# Altium footprint library WS-DITV.PcbLib: 44 footprints (part 3 of 3)
Each footprint in its own frame and in the unit in brackets; x right, y up, seen from the top. Pads: shape width x height; smd on the part's side, far side on the other; paste and mask are expansions set on the pad; w line width, h text height; cw(c..) or ccw(c..) is an arc to the next point about the centre after c.
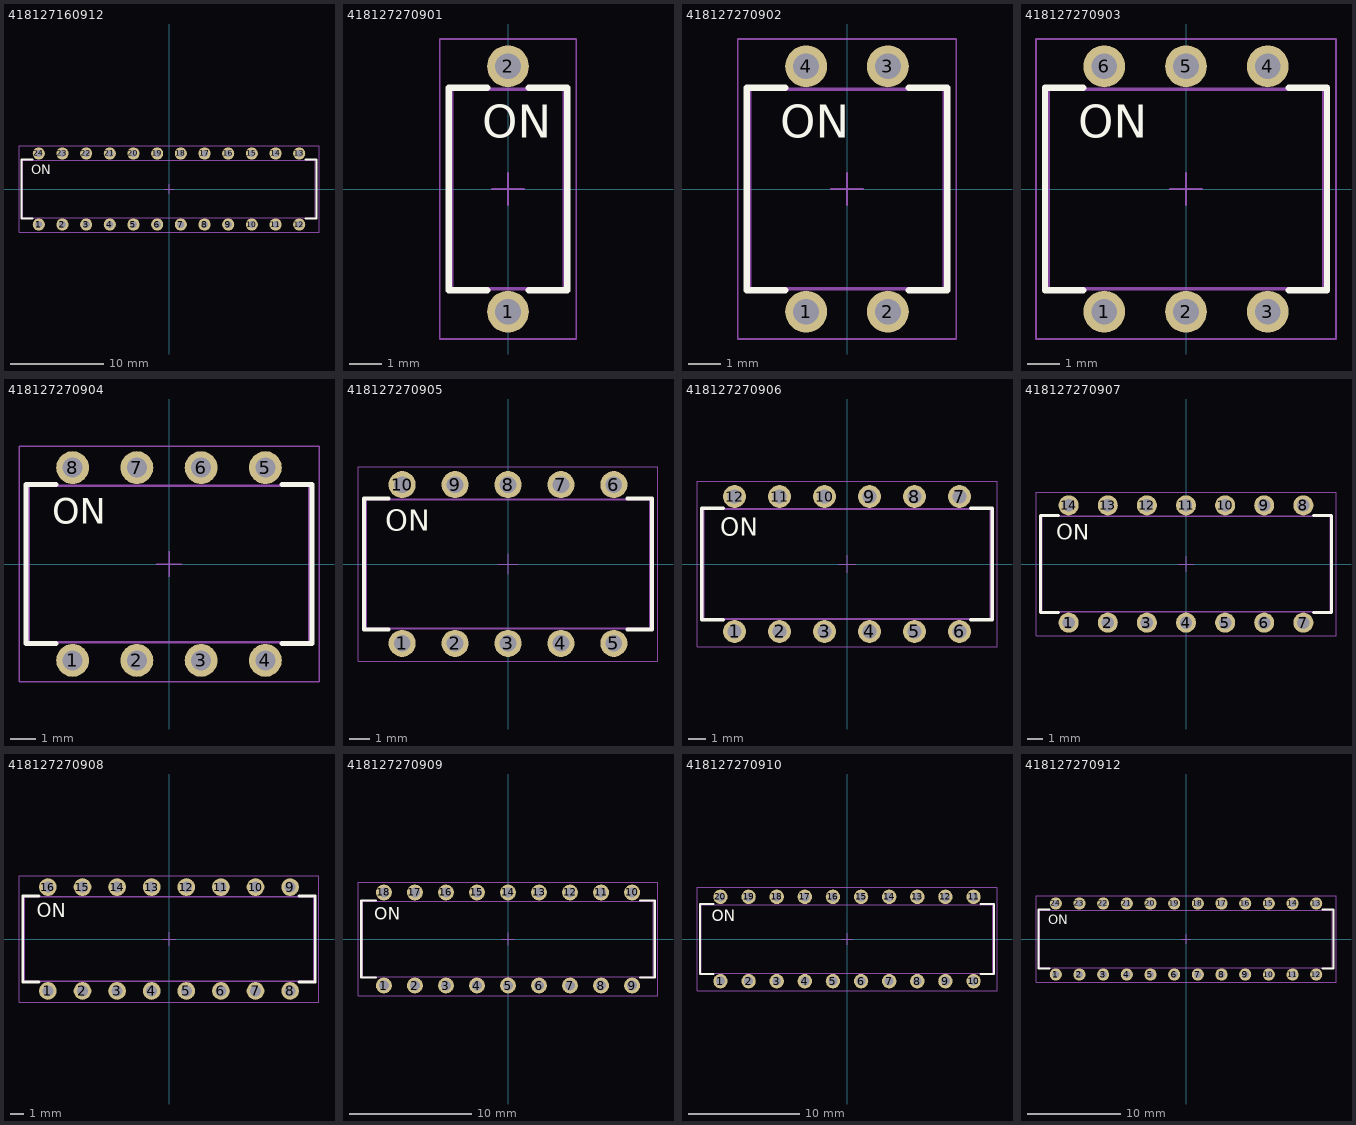
[diagram p2: the footprints below, top view; thin cyan lines are the x and y axes]

## 418127160912 [mm] "2.54 mm small compact THT flat actuator with top tape, 12p"
height 3
pads (24):
  round 1.3 hole 0.8: 1(-13.97,-3.81) 2(-11.43,-3.81) 3(-8.89,-3.81) 4(-6.35,-3.81) 5(-3.81,-3.81) 6(-1.27,-3.81) 7(1.27,-3.81) 8(3.81,-3.81) 9(6.35,-3.81) 10(8.89,-3.81) 11(11.43,-3.81) 12(13.97,-3.81) 13(13.97,3.81) 14(11.43,3.81) 15(8.89,3.81) 16(6.35,3.81) 17(3.81,3.81) 18(1.27,3.81) 19(-1.27,3.81) 20(-3.81,3.81) 21(-6.35,3.81) 22(-8.89,3.81) 23(-11.43,3.81) 24(-13.97,3.81)
Top Overlay:
  lines w0.2: -14.62,-3.15 -15.81,-3.15 -15.81,3.15 -14.62,3.15 ; 14.62,-3.15 15.81,-3.15 15.81,3.15 14.62,3.15
  text "ON" at -14.77,1.59 h1.02
Top Designator:
  text ".Designator" at -7.498,-0.5 h1.5
Top Component Outline:
  lines w0.1: -15.71,-3.1 -15.71,3.1 15.71,3.1 15.71,-3.1 -15.71,-3.1
  text "10" at 8.22,-2.67 h1.02
  text "8" at 3.47,-2.67 h1.02
  text "6" at -1.61,-2.67 h1.02
  text "5" at -4.15,-2.67 h1.02
  text "4" at -6.69,-2.67 h1.02
  text "3" at -9.23,-2.67 h1.02
  text "1" at -14.07,-2.67 h1.02
  text "ON" at -14.77,1.59 h1.02
  text "2" at -11.77,-2.67 h1.02
  text "7" at 0.93,-2.67 h1.02
  text "9" at 6.01,-2.67 h1.02
  text "11" at 10.96,-2.67 h1.02
  text "12" at 13.24,-2.68 h1.02
Top Courtyard:
  lines w0.05: -0.5,0 0.5,0 ; 0,-0.5 0,0.5 ; -16.09,-4.66 -16.09,4.66 16.09,4.66 16.09,-4.66 -16.09,-4.66
3D body "418127160912.stp": height 3.59, standoff -3.45, extent -15.71,-3.985 15.71,3.885

## 418127270901 [mm] "2.54 mm small compact THT with raised actuator, 1p"
height 3.62
pads (2):
  round 1.3 hole 0.8: 1(0,-3.81) 2(0,3.81)
Top Overlay:
  lines w0.2: -0.65,-3.15 -1.84,-3.15 -1.84,3.15 -0.65,3.15 ; 0.65,-3.15 1.84,-3.15 1.84,3.15 0.65,3.15
  text "ON" at -0.8,1.59 h1.02
Top Designator:
  text ".Designator" at -7.498,-0.5 h1.5
Top Component Outline:
  lines w0.1: -1.74,-3.1 -1.74,3.1 1.74,3.1 1.74,-3.1 -1.74,-3.1
  text "1" at -0.1,-2.67 h1.02
  text "ON" at -0.8,1.59 h1.02
Top Courtyard:
  lines w0.05: -0.5,0 0.5,0 ; 0,-0.5 0,0.5 ; -2.12,-4.66 -2.12,4.66 2.12,4.66 2.12,-4.66 -2.12,-4.66
3D body "418127270901.stp": height 4.15, standoff -3.45, extent -1.74,-3.985 1.74,3.885

## 418127270902 [mm] "2.54 mm small compact THT with raised actuator 2p"
height 3.6
pads (4):
  round 1.3 hole 0.8: 1(-1.27,-3.81) 2(1.27,-3.81) 3(1.27,3.81) 4(-1.27,3.81)
Top Overlay:
  lines w0.2: -1.92,-3.15 -3.11,-3.15 -3.11,3.15 -1.92,3.15 ; 1.92,-3.15 3.11,-3.15 3.11,3.15 1.92,3.15
  text "ON" at -2.07,1.59 h1.02
Top Designator:
  text ".Designator" at -7.498,-0.5 h1.5
Top Component Outline:
  lines w0.1: -3.01,-3.1 3.01,-3.1 3.01,3.1 -3.01,3.1 -3.01,-3.1
  text "2" at 0.93,-2.67 h1.02
  text "ON" at -2.07,1.59 h1.02
  text "1" at -1.37,-2.67 h1.02
Top Courtyard:
  lines w0.05: -0.5,0 0.5,0 ; 0,-0.5 0,0.5 ; -3.39,-4.66 3.39,-4.66 3.39,4.66 -3.39,4.66 -3.39,-4.66
3D body "418127270902.stp": height 4.15, standoff -3.45, extent -3.01,-3.985 3.01,3.885

## 418127270903 [mm] "2.54 mm small compact THT with raised actuator 3p"
height 3.6
pads (6):
  round 1.3 hole 0.8: 1(-2.54,-3.81) 2(0,-3.81) 3(2.54,-3.81) 4(2.54,3.81) 5(0,3.81) 6(-2.54,3.81)
Top Overlay:
  lines w0.2: -3.19,-3.15 -4.38,-3.15 -4.38,3.15 -3.19,3.15 ; 3.19,-3.15 4.38,-3.15 4.38,3.15 3.19,3.15
  text "ON" at -3.34,1.59 h1.02
Top Designator:
  text ".Designator" at -7.498,-0.5 h1.5
Top Component Outline:
  lines w0.1: -4.28,-3.1 -4.28,3.1 4.28,3.1 4.28,-3.1 -4.28,-3.1
  text "3" at 2.2,-2.67 h1.02
  text "1" at -2.64,-2.67 h1.02
  text "ON" at -3.34,1.59 h1.02
  text "2" at -0.34,-2.67 h1.02
Top Courtyard:
  lines w0.05: -0.5,0 0.5,0 ; 0,-0.5 0,0.5 ; -4.66,-4.66 -4.66,4.66 4.66,4.66 4.66,-4.66 -4.66,-4.66
3D body "418127270903.stp": height 4.15, standoff -3.45, extent -4.28,-3.985 4.28,3.885

## 418127270904 [mm] "2.54 mm small compact THT with raised actuator, 4p"
height 3.6
pads (8):
  round 1.3 hole 0.8: 1(-3.81,-3.81) 2(-1.27,-3.81) 3(1.27,-3.81) 4(3.81,-3.81) 5(3.81,3.81) 6(1.27,3.81) 7(-1.27,3.81) 8(-3.81,3.81)
Top Overlay:
  lines w0.2: -4.46,-3.15 -5.65,-3.15 -5.65,3.15 -4.46,3.15 ; 4.46,-3.15 5.65,-3.15 5.65,3.15 4.46,3.15
  text "ON" at -4.61,1.59 h1.02
Top Designator:
  text ".Designator" at -7.498,-0.5 h1.5
Top Component Outline:
  lines w0.1: -5.55,-3.1 -5.55,3.1 5.55,3.1 5.55,-3.1 -5.55,-3.1
  text "4" at 3.47,-2.67 h1.02
  text "3" at 0.93,-2.67 h1.02
  text "1" at -3.91,-2.67 h1.02
  text "ON" at -4.61,1.59 h1.02
  text "2" at -1.61,-2.67 h1.02
Top Courtyard:
  lines w0.05: -0.5,0 0.5,0 ; 0,-0.5 0,0.5 ; -5.93,-4.66 -5.93,4.66 5.93,4.66 5.93,-4.66 -5.93,-4.66
3D body "418127270904.stp": height 4.15, standoff -3.45, extent -5.55,-3.985 5.55,3.885

## 418127270905 [mm] "2.54 mm small compact THT with raised actuator 5p"
height 3.6
pads (10):
  round 1.3 hole 0.8: 1(-5.08,-3.81) 2(-2.54,-3.81) 3(0,-3.81) 4(2.54,-3.81) 5(5.08,-3.81) 6(5.08,3.81) 7(2.54,3.81) 8(0,3.81) 9(-2.54,3.81) 10(-5.08,3.81)
Top Overlay:
  lines w0.2: -5.73,-3.15 -6.92,-3.15 -6.92,3.15 -5.73,3.15 ; 5.73,-3.15 6.92,-3.15 6.92,3.15 5.73,3.15
  text "ON" at -5.88,1.59 h1.02
Top Designator:
  text ".Designator" at -7.498,-0.5 h1.5
Top Component Outline:
  lines w0.1: -6.82,-3.1 -6.82,3.1 6.82,3.1 6.82,-3.1 -6.82,-3.1
  text "5" at 4.74,-2.67 h1.02
  text "4" at 2.2,-2.67 h1.02
  text "3" at -0.34,-2.67 h1.02
  text "1" at -5.18,-2.67 h1.02
  text "ON" at -5.88,1.59 h1.02
  text "2" at -2.88,-2.67 h1.02
Top Courtyard:
  lines w0.05: -0.5,0 0.5,0 ; 0,-0.5 0,0.5 ; -7.2,-4.66 -7.2,4.66 7.2,4.66 7.2,-4.66 -7.2,-4.66
3D body "418127270905.stp": height 4.15, standoff -3.45, extent -6.82,-3.985 6.82,3.885

## 418127270906 [mm] "2.54 mm small compact THT with raised actuator, 6p"
height 3.6
pads (12):
  round 1.3 hole 0.8: 1(-6.35,-3.81) 2(-3.81,-3.81) 3(-1.27,-3.81) 4(1.27,-3.81) 5(3.81,-3.81) 6(6.35,-3.81) 7(6.35,3.81) 8(3.81,3.81) 9(1.27,3.81) 10(-1.27,3.81) 11(-3.81,3.81) 12(-6.35,3.81)
Top Overlay:
  lines w0.2: -7,-3.15 -8.19,-3.15 -8.19,3.15 -7,3.15 ; 7,-3.15 8.19,-3.15 8.19,3.15 7,3.15
  text "ON" at -7.15,1.59 h1.02
Top Designator:
  text ".Designator" at -7.498,-0.5 h1.5
Top Component Outline:
  lines w0.1: -8.09,-3.1 -8.09,3.1 8.09,3.1 8.09,-3.1 -8.09,-3.1
  text "6" at 6.01,-2.67 h1.02
  text "5" at 3.47,-2.67 h1.02
  text "4" at 0.93,-2.67 h1.02
  text "3" at -1.61,-2.67 h1.02
  text "1" at -6.45,-2.67 h1.02
  text "ON" at -7.15,1.59 h1.02
  text "2" at -4.15,-2.67 h1.02
Top Courtyard:
  lines w0.05: -0.5,0 0.5,0 ; 0,-0.5 0,0.5 ; -8.47,-4.66 -8.47,4.66 8.47,4.66 8.47,-4.66 -8.47,-4.66
3D body "418127270906.stp": height 4.15, standoff -3.45, extent -8.09,-3.985 8.09,3.885

## 418127270907 [mm] "2.54 mm small compact THT with raised actuator 7p"
height 3.6
pads (14):
  round 1.3 hole 0.8: 1(-7.62,-3.81) 2(-5.08,-3.81) 3(-2.54,-3.81) 4(0,-3.81) 5(2.54,-3.81) 6(5.08,-3.81) 7(7.62,-3.81) 8(7.62,3.81) 9(5.08,3.81) 10(2.54,3.81) 11(0,3.81) 12(-2.54,3.81) 13(-5.08,3.81) 14(-7.62,3.81)
Top Overlay:
  lines w0.2: -8.27,-3.15 -9.46,-3.15 -9.46,3.15 -8.27,3.15 ; 8.27,-3.15 9.46,-3.15 9.46,3.15 8.27,3.15
  text "ON" at -8.42,1.59 h1.02
Top Designator:
  text ".Designator" at -7.498,-0.5 h1.5
Top Component Outline:
  lines w0.1: -9.36,-3.1 9.36,-3.1 9.36,3.1 -9.36,3.1 -9.36,-3.1
  text "7" at 7.28,-2.67 h1.02
  text "2" at -5.42,-2.67 h1.02
  text "ON" at -8.42,1.59 h1.02
  text "1" at -7.72,-2.67 h1.02
  text "3" at -2.88,-2.67 h1.02
  text "4" at -0.34,-2.67 h1.02
  text "5" at 2.2,-2.67 h1.02
  text "6" at 4.74,-2.67 h1.02
Top Courtyard:
  lines w0.05: -0.5,0 0.5,0 ; 0,-0.5 0,0.5 ; -9.74,-4.66 9.74,-4.66 9.74,4.66 -9.74,4.66 -9.74,-4.66
3D body "418127270907.stp": height 4.15, standoff -3.45, extent -9.36,-3.985 9.36,3.885

## 418127270908 [mm] "2.54 mm small compact THT with raised actuator, 8p"
height 3.6
pads (16):
  round 1.3 hole 0.8: 1(-8.89,-3.81) 2(-6.35,-3.81) 3(-3.81,-3.81) 4(-1.27,-3.81) 5(1.27,-3.81) 6(3.81,-3.81) 7(6.35,-3.81) 8(8.89,-3.81) 9(8.89,3.81) 10(6.35,3.81) 11(3.81,3.81) 12(1.27,3.81) 13(-1.27,3.81) 14(-3.81,3.81) 15(-6.35,3.81) 16(-8.89,3.81)
Top Overlay:
  lines w0.2: -9.54,-3.15 -10.73,-3.15 -10.73,3.15 -9.54,3.15 ; 9.54,-3.15 10.73,-3.15 10.73,3.15 9.54,3.15
  text "ON" at -9.69,1.59 h1.02
Top Designator:
  text ".Designator" at -7.498,-0.5 h1.5
Top Component Outline:
  lines w0.1: -10.63,-3.1 -10.63,3.1 10.63,3.1 10.63,-3.1 -10.63,-3.1
  text "8" at 8.55,-2.67 h1.02
  text "6" at 3.47,-2.67 h1.02
  text "5" at 0.93,-2.67 h1.02
  text "4" at -1.61,-2.67 h1.02
  text "3" at -4.15,-2.67 h1.02
  text "1" at -8.99,-2.67 h1.02
  text "ON" at -9.69,1.59 h1.02
  text "2" at -6.69,-2.67 h1.02
  text "7" at 6.01,-2.67 h1.02
Top Courtyard:
  lines w0.05: -0.5,0 0.5,0 ; 0,-0.5 0,0.5 ; -11.01,-4.66 -11.01,4.66 11.01,4.66 11.01,-4.66 -11.01,-4.66
3D body "418127270908.stp": height 4.15, standoff -3.45, extent -10.63,-3.985 10.63,3.885

## 418127270909 [mm] "2.54 mm small compact THT with raised actuator, 9p"
height 3.6
pads (18):
  round 1.3 hole 0.8: 1(-10.16,-3.81) 2(-7.62,-3.81) 3(-5.08,-3.81) 4(-2.54,-3.81) 5(0,-3.81) 6(2.54,-3.81) 7(5.08,-3.81) 8(7.62,-3.81) 9(10.16,-3.81) 10(10.16,3.81) 11(7.62,3.81) 12(5.08,3.81) 13(2.54,3.81) 14(0,3.81) 15(-2.54,3.81) 16(-5.08,3.81) 17(-7.62,3.81) 18(-10.16,3.81)
Top Overlay:
  lines w0.2: -10.81,-3.15 -12,-3.15 -12,3.15 -10.81,3.15 ; 10.81,-3.15 12,-3.15 12,3.15 10.81,3.15
  text "ON" at -10.96,1.59 h1.02
Top Designator:
  text ".Designator" at -7.498,-0.5 h1.5
Top Component Outline:
  lines w0.1: -11.9,-3.1 11.9,-3.1 11.9,3.1 -11.9,3.1 -11.9,-3.1
  text "9" at 9.82,-2.67 h1.02
  text "7" at 4.74,-2.67 h1.02
  text "2" at -7.96,-2.67 h1.02
  text "ON" at -10.96,1.59 h1.02
  text "1" at -10.26,-2.67 h1.02
  text "3" at -5.42,-2.67 h1.02
  text "4" at -2.88,-2.67 h1.02
  text "5" at -0.34,-2.67 h1.02
  text "6" at 2.2,-2.67 h1.02
  text "8" at 7.28,-2.67 h1.02
Top Courtyard:
  lines w0.05: -0.5,0 0.5,0 ; 0,-0.5 0,0.5 ; -12.28,-4.66 12.28,-4.66 12.28,4.66 -12.28,4.66 -12.28,-4.66
3D body "418127270909.stp": height 4.15, standoff -3.45, extent -11.9,-3.985 11.9,3.885

## 418127270910 [mm] "2.54 mm small compact THT with raised actuator, 10p"
height 3.6
pads (20):
  round 1.3 hole 0.8: 1(-11.43,-3.81) 2(-8.89,-3.81) 3(-6.35,-3.81) 4(-3.81,-3.81) 5(-1.27,-3.81) 6(1.27,-3.81) 7(3.81,-3.81) 8(6.35,-3.81) 9(8.89,-3.81) 10(11.43,-3.81) 11(11.43,3.81) 12(8.89,3.81) 13(6.35,3.81) 14(3.81,3.81) 15(1.27,3.81) 16(-1.27,3.81) 17(-3.81,3.81) 18(-6.35,3.81) 19(-8.89,3.81) 20(-11.43,3.81)
Top Overlay:
  lines w0.2: -12.08,-3.15 -13.27,-3.15 -13.27,3.15 -12.08,3.15 ; 12.08,-3.15 13.27,-3.15 13.27,3.15 12.08,3.15
  text "ON" at -12.23,1.59 h1.02
Top Designator:
  text ".Designator" at -7.498,-0.5 h1.5
Top Component Outline:
  lines w0.1: -13.17,-3.1 -13.17,3.1 13.17,3.1 13.17,-3.1 -13.17,-3.1
  text "10" at 10.76,-2.67 h1.02
  text "8" at 6.01,-2.67 h1.02
  text "6" at 0.93,-2.67 h1.02
  text "5" at -1.61,-2.67 h1.02
  text "4" at -4.15,-2.67 h1.02
  text "3" at -6.69,-2.67 h1.02
  text "1" at -11.53,-2.67 h1.02
  text "ON" at -12.23,1.59 h1.02
  text "2" at -9.23,-2.67 h1.02
  text "7" at 3.47,-2.67 h1.02
  text "9" at 8.55,-2.67 h1.02
Top Courtyard:
  lines w0.05: -0.5,0 0.5,0 ; 0,-0.5 0,0.5 ; -13.55,-4.66 -13.55,4.66 13.55,4.66 13.55,-4.66 -13.55,-4.66
3D body "418127270910.stp": height 4.15, standoff -3.45, extent -13.17,-3.985 13.17,3.885

## 418127270912 [mm] "2.54 mm small compact THT with raised actuator, 12p"
height 3.6
pads (24):
  round 1.3 hole 0.8: 1(-13.97,-3.81) 2(-11.43,-3.81) 3(-8.89,-3.81) 4(-6.35,-3.81) 5(-3.81,-3.81) 6(-1.27,-3.81) 7(1.27,-3.81) 8(3.81,-3.81) 9(6.35,-3.81) 10(8.89,-3.81) 11(11.43,-3.81) 12(13.97,-3.81) 13(13.97,3.81) 14(11.43,3.81) 15(8.89,3.81) 16(6.35,3.81) 17(3.81,3.81) 18(1.27,3.81) 19(-1.27,3.81) 20(-3.81,3.81) 21(-6.35,3.81) 22(-8.89,3.81) 23(-11.43,3.81) 24(-13.97,3.81)
Top Overlay:
  lines w0.2: -14.62,-3.15 -15.81,-3.15 -15.81,3.15 -14.62,3.15 ; 14.62,-3.15 15.81,-3.15 15.81,3.15 14.62,3.15
  text "ON" at -14.77,1.59 h1.02
Top Designator:
  text ".Designator" at -7.498,-0.5 h1.5
Top Component Outline:
  lines w0.1: -15.71,-3.1 15.71,-3.1 15.71,3.1 -15.71,3.1 -15.71,-3.1
  text "12" at 13.24,-2.68 h1.02
  text "11" at 10.96,-2.67 h1.02
  text "9" at 6.01,-2.67 h1.02
  text "7" at 0.93,-2.67 h1.02
  text "2" at -11.77,-2.67 h1.02
  text "ON" at -14.77,1.59 h1.02
  text "1" at -14.07,-2.67 h1.02
  text "3" at -9.23,-2.67 h1.02
  text "4" at -6.69,-2.67 h1.02
  text "5" at -4.15,-2.67 h1.02
  text "6" at -1.61,-2.67 h1.02
  text "8" at 3.47,-2.67 h1.02
  text "10" at 8.22,-2.67 h1.02
Top Courtyard:
  lines w0.05: -0.5,0 0.5,0 ; 0,-0.5 0,0.5 ; -16.09,-4.66 16.09,-4.66 16.09,4.66 -16.09,4.66 -16.09,-4.66
3D body "418127270912.stp": height 4.15, standoff -3.45, extent -15.71,-3.985 15.71,3.885